# EAGLE library part HEADER-2X12P-W23MM (library RAK3172-Breakout)
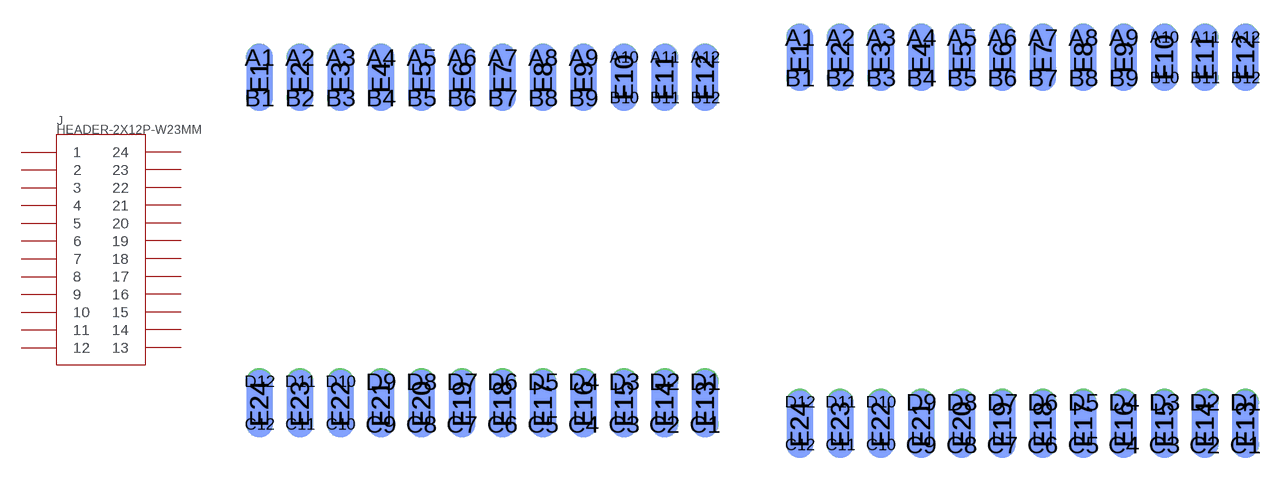
[diagram p0: symbol with the pads of H2X12-2.54-23MM; footprints H2X12-2.54-23MM, H2X12-2.54-25MM]

Designator prefix J

## HEADER-2X12P-W23MM23MM  [H2X12-2.54-23MM]
A1  1
A2  2
A3  3
A4  4
A5  5
A6  6
A7  7
A8  8
A9  9
A10  10
A11  11
A12  12
B1  1
B2  2
B3  3
B4  4
B5  5
B6  6
B7  7
B8  8
B9  9
B10  10
B11  11
B12  12
C1  13
C2  14
C3  15
C4  16
C5  17
C6  18
C7  19
C8  20
C9  21
C10  22
C11  23
C12  24
D1  13
D2  14
D3  15
D4  16
D5  17
D6  18
D7  19
D8  20
D9  21
D10  22
D11  23
D12  24
E1  1
E2  2
E3  3
E4  4
E5  5
E6  6
E7  7
E8  8
E9  9
E10  10
E11  11
E12  12
E13  13
E14  14
E15  15
E16  16
E17  17
E18  18
E19  19
E20  20
E21  21
E22  22
E23  23
E24  24
F1  1
F2  2
F3  3
F4  4
F5  5
F6  6
F7  7
F8  8
F9  9
F10  10
F11  11
F12  12
F13  13
F14  14
F15  15
F16  16
F17  17
F18  18
F19  19
F20  20
F21  21
F22  22
F23  23
F24  24

## HEADER-2X12P-W23MM25MM  [H2X12-2.54-25MM]
A1  1
A2  2
A3  3
A4  4
A5  5
A6  6
A7  7
A8  9
A9  10
A10  11
A11  12
A12  8
B1  1
B2  2
B3  3
B4  4
B5  5
B6  6
B7  7
B8  9
B9  10
B10  11
B11  12
B12  8
C1  13
C2  14
C3  15
C4  16
C5  17
C6  18
C7  19
C8  21
C9  22
C10  20
C11  23
C12  24
D1  13
D2  14
D3  15
D4  16
D5  17
D6  18
D7  19
D8  21
D9  22
D10  20
D11  23
D12  24
E1  1
E2  2
E3  3
E4  4
E5  5
E6  6
E7  7
E8  9
E9  10
E10  11
E11  12
E12  8
E13  13
E14  14
E15  15
E16  16
E17  17
E18  18
E19  19
E20  20
E21  21
E22  22
E23  23
E24  24
F1  1
F2  2
F3  3
F4  4
F5  5
F6  6
F7  7
F8  9
F9  10
F10  11
F11  12
F12  8
F13  13
F14  14
F15  15
F16  16
F17  17
F18  18
F19  19
F20  20
F21  21
F22  22
F23  23
F24  24

## Footprint H2X12-2.54-23MM (pad centres in mm)
drill 0.889 pad 1.651: A1 -13.97,11.5; A2 -11.43,11.5; A3 -8.89,11.5; A4 -6.35,11.5; A5 -3.81,11.5; A6 -1.27,11.5; A7 1.27,11.5; A8 3.81,11.5; A9 6.35,11.5; A10 8.89,11.5; A11 11.43,11.5; A12 13.97,11.5; B1 -13.97,8.96; B2 -11.43,8.96; B3 -8.89,8.96; B4 -6.35,8.96; B5 -3.81,8.96; B6 -1.27,8.96; B7 1.27,8.96; B8 3.81,8.96; B9 6.35,8.96; B10 8.89,8.96; B11 11.43,8.96; B12 13.97,8.96; C1 13.97,-11.5; C2 11.43,-11.5; C3 8.89,-11.5; C4 6.35,-11.5; C5 3.81,-11.5; C6 1.27,-11.5; C7 -1.27,-11.5; C8 -3.81,-11.5; C9 -6.35,-11.5; C10 -8.89,-11.5; C11 -11.43,-11.5; C12 -13.97,-11.5; D1 13.97,-8.82; D2 11.43,-8.82; D3 8.89,-8.82; D4 6.35,-8.82; D5 3.81,-8.82; D6 1.27,-8.82; D7 -1.27,-8.82; D8 -3.81,-8.82; D9 -6.35,-8.82; D10 -8.89,-8.82; D11 -11.43,-8.82; D12 -13.97,-8.82
smd 1.65 x 4.2: E1 -13.97,10.23; E2 -11.43,10.23; E3 -8.89,10.23; E4 -6.35,10.23; E5 -3.81,10.23; E6 -1.27,10.23; E7 1.27,10.23; E8 3.81,10.23; E9 6.35,10.23; E10 8.89,10.23; E11 11.43,10.23; E12 13.97,10.23; E13 13.97,-10.23; E14 11.43,-10.23; E15 8.89,-10.23; E16 6.35,-10.23; E17 3.81,-10.23; E18 1.27,-10.23; E19 -1.27,-10.23; E20 -3.81,-10.23; E21 -6.35,-10.23; E22 -8.89,-10.23; E23 -11.43,-10.23; E24 -13.97,-10.23
smd 1.65 x 4.2 bottom: F1 -13.97,10.23; F2 -11.43,10.23; F3 -8.89,10.23; F4 -6.35,10.23; F5 -3.81,10.23; F6 -1.27,10.23; F7 1.27,10.23; F8 3.81,10.23; F9 6.35,10.23; F10 8.89,10.23; F11 11.43,10.23; F12 13.97,10.23; F13 13.97,-10.23; F14 11.43,-10.23; F15 8.89,-10.23; F16 6.35,-10.23; F17 3.81,-10.23; F18 1.27,-10.23; F19 -1.27,-10.23; F20 -3.81,-10.23; F21 -6.35,-10.23; F22 -8.89,-10.23; F23 -11.43,-10.23; F24 -13.97,-10.23

## Footprint H2X12-2.54-25MM (pad centres in mm)
drill 0.889 pad 1.651: A1 -13.97,12.77; A2 -11.43,12.77; A3 -8.89,12.77; A4 -6.35,12.77; A5 -3.81,12.77; A6 -1.27,12.77; A7 1.27,12.77; A8 3.81,12.77; A9 6.35,12.77; A10 8.89,12.77; A11 11.43,12.77; A12 13.97,12.77; B1 -13.97,10.23; B2 -11.43,10.23; B3 -8.89,10.23; B4 -6.35,10.23; B5 -3.81,10.23; B6 -1.27,10.23; B7 1.27,10.23; B8 3.81,10.23; B9 6.35,10.23; B10 8.89,10.23; B11 11.43,10.23; B12 13.97,10.23; C1 13.97,-12.77; C2 11.43,-12.77; C3 8.89,-12.77; C4 6.35,-12.77; C5 3.81,-12.77; C6 1.27,-12.77; C7 -1.27,-12.77; C8 -3.81,-12.77; C9 -6.35,-12.77; C10 -8.89,-12.77; C11 -11.43,-12.77; C12 -13.97,-12.77; D1 13.97,-10.09; D2 11.43,-10.09; D3 8.89,-10.09; D4 6.35,-10.09; D5 3.81,-10.09; D6 1.27,-10.09; D7 -1.27,-10.09; D8 -3.81,-10.09; D9 -6.35,-10.09; D10 -8.89,-10.09; D11 -11.43,-10.09; D12 -13.97,-10.09
smd 1.65 x 4.2: E1 -13.97,11.5; E2 -11.43,11.5; E3 -8.89,11.5; E4 -6.35,11.5; E5 -3.81,11.5; E6 -1.27,11.5; E7 1.27,11.5; E8 3.81,11.5; E9 6.35,11.5; E10 8.89,11.5; E11 11.43,11.5; E12 13.97,11.5; E13 13.97,-11.5; E14 11.43,-11.5; E15 8.89,-11.5; E16 6.35,-11.5; E17 3.81,-11.5; E18 1.27,-11.5; E19 -1.27,-11.5; E20 -3.81,-11.5; E21 -6.35,-11.5; E22 -8.89,-11.5; E23 -11.43,-11.5; E24 -13.97,-11.5
smd 1.65 x 4.2 bottom: F1 -13.97,11.5; F2 -11.43,11.5; F3 -8.89,11.5; F4 -6.35,11.5; F5 -3.81,11.5; F6 -1.27,11.5; F7 1.27,11.5; F8 3.81,11.5; F9 6.35,11.5; F10 8.89,11.5; F11 11.43,11.5; F12 13.97,11.5; F13 13.97,-11.5; F14 11.43,-11.5; F15 8.89,-11.5; F16 6.35,-11.5; F17 3.81,-11.5; F18 1.27,-11.5; F19 -1.27,-11.5; F20 -3.81,-11.5; F21 -6.35,-11.5; F22 -8.89,-11.5; F23 -11.43,-11.5; F24 -13.97,-11.5